# EAGLE library part CON6P1R (library ads4)
6-pin single-row connector
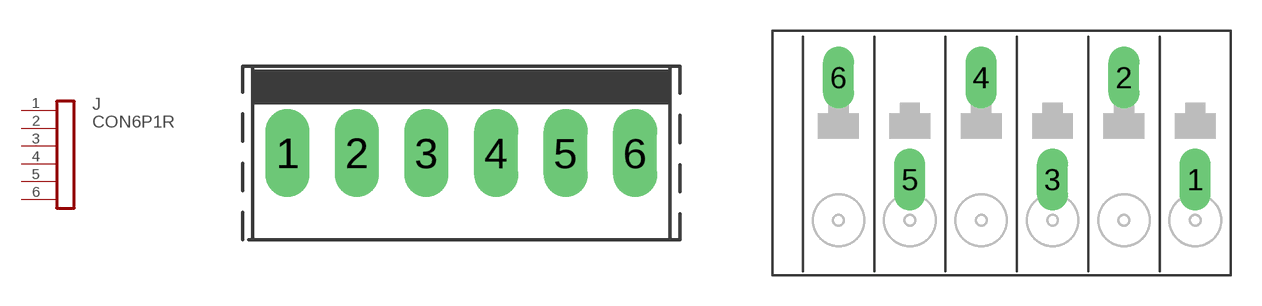
[diagram p22: symbol with the pads of GC22232061; footprints GC22232061, 1985234]

Designator prefix J

## CON6P1RGC  [GC22232061]
1  1
2  2
3  3
4  4
5  5
6  6

## CON6P1R1985234  [1985234]
Pads as for GC22232061

## CON6P1R282836-6  [TYCO282836-6]
Pads as for GC22232061

## CON6P1R1984659  [1984659]
Pads as for GC22232061

## CON6P1R1990041  [1990041]
Pads as for GC22232061

## Footprint GC22232061 (pad centres in mm)
GC/Waldom 6-pin friction-lock polarized connector
drill 1.067 long: 1 0,0; 2 2.54,0; 3 5.08,0; 4 7.62,0; 5 10.16,0; 6 12.7,0

## Footprint 1985234 (pad centres in mm)
Phoenix Contact 1985234 6-pin 3.5mm terminal block 13.1mm tall VERIFY ORIENTATION! PART MAY BE BOTTOM VIEW
drill 1 long: 1 8.75,-2.5; 2 5.25,2.5; 3 1.75,-2.5; 4 -1.75,2.5; 5 -5.25,-2.5; 6 -8.75,2.5

## Footprint TYCO282836-6 (pad centres in mm)
Tyco/Buchanan 282836-6 6-pin 5mm screw terminal
drill 1.1 long: 1 -12.54,0; 2 -7.54,0; 3 -2.54,0; 4 2.46,0; 5 7.46,0; 6 12.46,0

## Footprint 1984659 (pad centres in mm)
Phoenix Contact 1984659 6-pin screw terminal 3.5mm pitch
drill 1.2 long: 1 -8.75,0; 2 -5.25,0; 3 -1.75,0; 4 1.75,0; 5 5.25,0; 6 8.75,0

## Footprint 1990041 (pad centres in mm)
Phoenix 6-terminal 2.5mm connector 13.1mm high
drill 1 long: 1 6.25,-2.5; 2 3.75,2.5; 3 1.25,-2.5; 4 -1.25,2.5; 5 -3.75,-2.5; 6 -6.25,2.5